# Altium footprint library ti-packages.PcbLib: 27 footprints (part 2 of 2)
Each footprint in its own frame and in the unit in brackets; x right, y up, seen from the top. Pads: shape width x height; smd on the part's side, far side on the other; paste and mask are expansions set on the pad; w line width, h text height; cw(c..) or ccw(c..) is an arc to the next point about the centre after c.
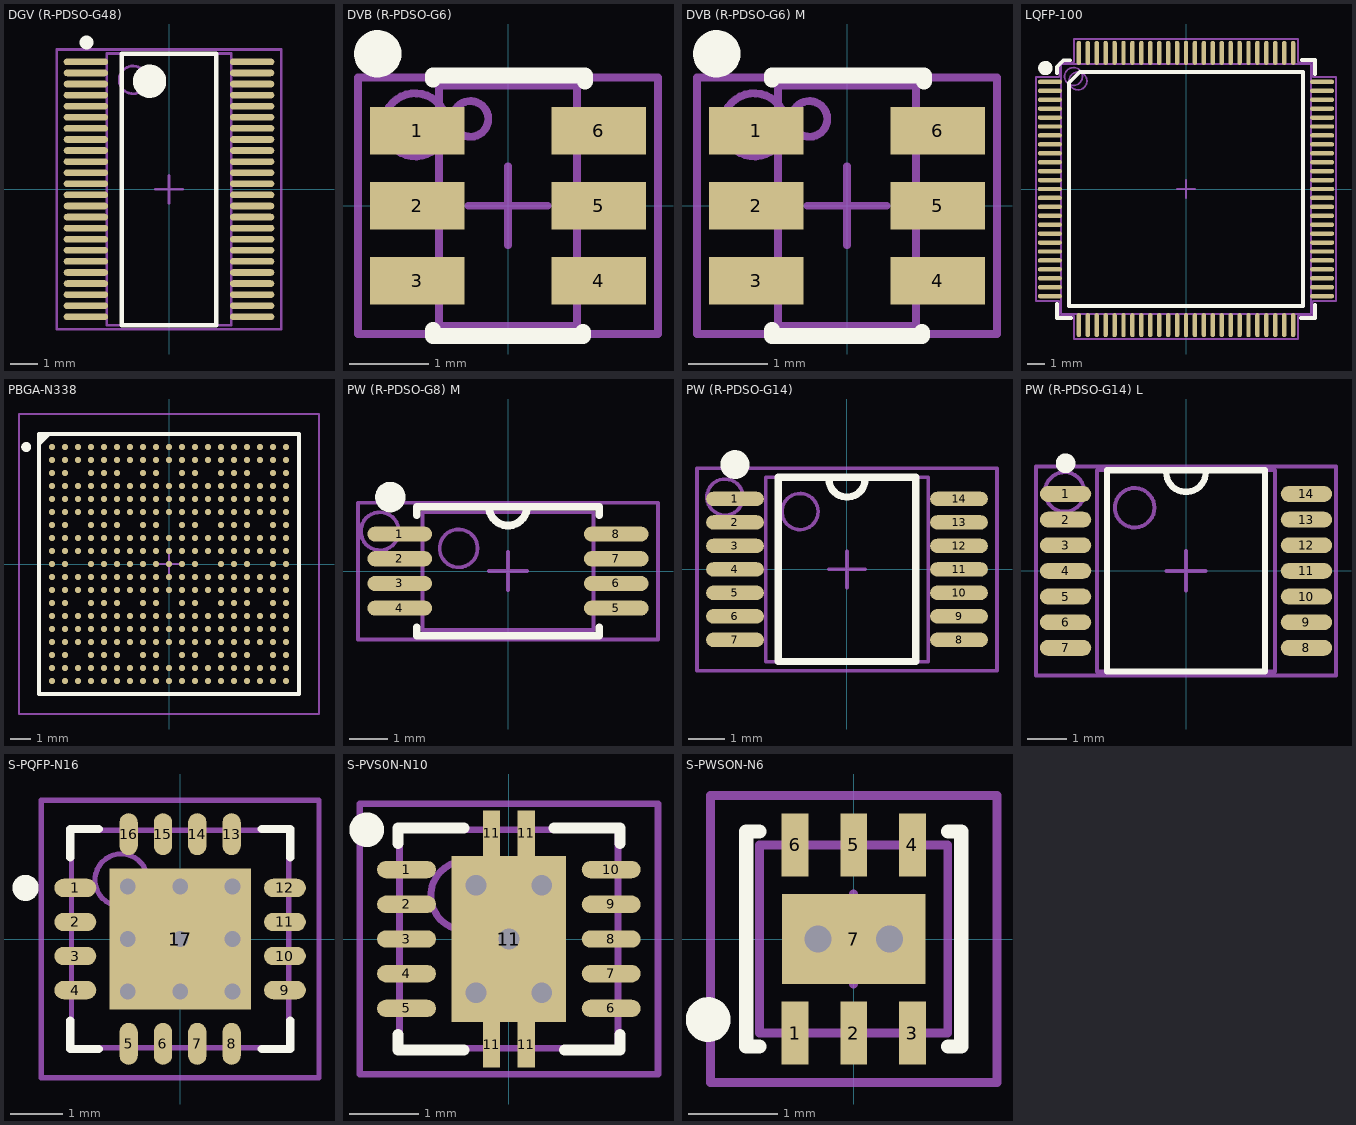
[diagram p1: the footprints below, top view; thin cyan lines are the x and y axes]

## DGV (R-PDSO-G48) [mm] "TSSOP, 48-Leads, Body 9.8x4.5mm (max), Pitch 0.40mm, IPC Medium Density"
height 1.2
pads (48):
  oval 1.6x0.24 smd: 1(-3,4.6) 2(-3,4.2) 3(-3,3.8) 4(-3,3.4) 5(-3,3) 6(-3,2.6) 7(-3,2.2) 8(-3,1.8) 9(-3,1.4) 10(-3,1) 11(-3,0.6) 12(-3,0.2) 13(-3,-0.2) 14(-3,-0.6) 15(-3,-1) 16(-3,-1.4) 17(-3,-1.8) 18(-3,-2.2) 19(-3,-2.6) 20(-3,-3) 21(-3,-3.4) 22(-3,-3.8) 23(-3,-4.2) 24(-3,-4.6) 25(3,-4.6) 26(3,-4.2) 27(3,-3.8) 28(3,-3.4) 29(3,-3) 30(3,-2.6) 31(3,-2.2) 32(3,-1.8) 33(3,-1.4) 34(3,-1) 35(3,-0.6) 36(3,-0.2) 37(3,0.2) 38(3,0.6) 39(3,1) 40(3,1.4) 41(3,1.8) 42(3,2.2) 43(3,2.6) 44(3,3) 45(3,3.4) 46(3,3.8) 47(3,4.2) 48(3,4.6)
Top Overlay:
  circle w0.6: c-0.7,3.9 r0.3
  circle w0.25: c-2.975,5.3 r0.125
  lines w0.16: -1.7,-4.9 1.7,-4.9 1.7,4.9 -1.7,4.9 -1.7,-4.9
Mechanical 13:
  circle w0.1: c-1.3,3.95 r0.5
  lines w0.1: -0.5,0 0.5,0 ; 0,-0.5 0,0.5 ; -2.25,-4.9 2.25,-4.9 2.25,4.9 -2.25,4.9 -2.25,-4.9
Mechanical 15:
  lines w0.1: -4.05,-5.05 4.05,-5.05 4.05,5.05 -4.05,5.05 -4.05,-5.05
  text ".Designator" at 0.5,2.825 h0.5
3D body: height 1.2, standoff 0, extent -3.2,-4.85 3.2,4.85

## DVB (R-PDSO-G6) [mm] "SOT23, 6-Leads, Body 3.0x3.0mm (max), Pitch 0.95mm, IPC Medium Density"
height 1.45
pads (6):
  rect 1.2x0.6 smd: 1(-1.15,0.95) 2(-1.15,0) 3(-1.15,-0.95) 4(1.15,-0.95) 5(1.15,0) 6(1.15,0.95)
Top Overlay:
  circle w0.3: c-1.65,1.925 r0.15
  lines w0.2: -0.95,-1.575 -0.95,-1.65 0.95,-1.65 0.95,-1.6 ; -0.95,1.6 -0.95,1.65 0.975,1.65 0.975,1.575
Mechanical 13:
  circle w0.1: c-0.476,1.1 r0.226
  lines w0.1: -0.5,0 0.5,0 ; 0,-0.5 0,0.5 ; -0.875,-1.525 -0.875,1.525 0.875,1.525 0.875,-1.525 -0.875,-1.525
Mechanical 15:
  circle w0.1: c-1.175,1.025 r0.4
  lines w0.1: -1.9,-1.625 -1.9,1.625 1.9,1.625 1.9,-1.625 -1.9,-1.625
  text ".Designator" at -0.25,1.125 h0.5
3D body: height 1, standoff 0, extent -1.17,-1.46 1.17,1.46

## DVB (R-PDSO-G6) M [mm] "SOT23, 6-Leads, Body 3.0x3.0mm (max), Pitch 0.95mm, IPC Medium Density"
height 1.45
pads (6):
  rect 1.2x0.6 smd: 1(-1.15,0.95) 2(-1.15,0) 3(-1.15,-0.95) 4(1.15,-0.95) 5(1.15,0) 6(1.15,0.95)
Top Overlay:
  circle w0.3: c-1.65,1.925 r0.15
  lines w0.2: -0.95,-1.575 -0.95,-1.65 0.95,-1.65 0.95,-1.6 ; -0.95,1.6 -0.95,1.65 0.975,1.65 0.975,1.575
Mechanical 13:
  circle w0.1: c-0.476,1.1 r0.226
  lines w0.1: -0.5,0 0.5,0 ; 0,-0.5 0,0.5 ; -0.875,-1.525 -0.875,1.525 0.875,1.525 0.875,-1.525 -0.875,-1.525
Mechanical 15:
  circle w0.1: c-1.175,1.025 r0.4
  lines w0.1: -1.9,-1.625 -1.9,1.625 1.9,1.625 1.9,-1.625 -1.9,-1.625
  text ".Designator" at -0.25,1.125 h0.5
3D body: height 1, standoff 0, extent -1.17,-1.46 1.17,1.46

## LQFP-100 [mm] "TSQFP, 100-Leads, Body 16.2x16.2mm (max), Pitch 0.50mm, IPC High Density"
height 1.6
pads (100):
  oval 1.35x0.25 smd: 1(-7.625,6) 2(-7.625,5.5) 3(-7.625,5) 4(-7.625,4.5) 5(-7.625,4) 6(-7.625,3.5) 7(-7.625,3) 8(-7.625,2.5) 9(-7.625,2) 10(-7.625,1.5) 11(-7.625,1) 12(-7.625,0.5) 13(-7.625,0) 14(-7.625,-0.5) 15(-7.625,-1) 16(-7.625,-1.5) 17(-7.625,-2) 18(-7.625,-2.5) 19(-7.625,-3) 20(-7.625,-3.5) 21(-7.625,-4) 22(-7.625,-4.5) 23(-7.625,-5) 24(-7.625,-5.5) 25(-7.625,-6) 51(7.625,-6) 52(7.625,-5.5) 53(7.625,-5) 54(7.625,-4.5) 55(7.625,-4) 56(7.625,-3.5) 57(7.625,-3) 58(7.625,-2.5) 59(7.625,-2) 60(7.625,-1.5) 61(7.625,-1) 62(7.625,-0.5) 63(7.625,0) 64(7.625,0.5) 65(7.625,1) 66(7.625,1.5) 67(7.625,2) 68(7.625,2.5) 69(7.625,3) 70(7.625,3.5) 71(7.625,4) 72(7.625,4.5) 73(7.625,5) 74(7.625,5.5) 75(7.625,6)
  oval 0.25x1.35 smd: 26(-6,-7.625) 27(-5.5,-7.625) 28(-5,-7.625) 29(-4.5,-7.625) 30(-4,-7.625) 31(-3.5,-7.625) 32(-3,-7.625) 33(-2.5,-7.625) 34(-2,-7.625) 35(-1.5,-7.625) 36(-1,-7.625) 37(-0.5,-7.625) 38(0,-7.625) 39(0.5,-7.625) 40(1,-7.625) 41(1.5,-7.625) 42(2,-7.625) 43(2.5,-7.625) 44(3,-7.625) 45(3.5,-7.625) 46(4,-7.625) 47(4.5,-7.625) 48(5,-7.625) 49(5.5,-7.625) 50(6,-7.625) 76(6,7.625) 77(5.5,7.625) 78(5,7.625) 79(4.5,7.625) 80(4,7.625) 81(3.5,7.625) 82(3,7.625) 83(2.5,7.625) 84(2,7.625) 85(1.5,7.625) 86(1,7.625) 87(0.5,7.625) 88(0,7.625) 89(-0.5,7.625) 90(-1,7.625) 91(-1.5,7.625) 92(-2,7.625) 93(-2.5,7.625) 94(-3,7.625) 95(-3.5,7.625) 96(-4,7.625) 97(-4.5,7.625) 98(-5,7.625) 99(-5.5,7.625) 100(-6,7.625)
Top Overlay:
  circle w0.4: c-7.875,6.775 r0.2
  lines w0.2: -7.225,-6.425 -7.225,-7.225 -6.425,-7.225 ; -7.225,6.475 -7.225,6.85 ; -6.475,7.2 -6.875,7.2 -7.225,6.85 ; 6.425,-7.225 7.225,-7.225 7.225,-6.475 ; 6.475,7.225 7.225,7.225 7.225,6.425 ; -7.225,6.85 -7.225,6.85 ; -6.55,-6.55 6.55,-6.55 6.55,6.55 -5.95,6.55 -6.55,5.95 -6.55,-6.55
Mechanical 13:
  circle w0.1: c-6.05,6.05 r0.5
  lines w0.1: -0.5,0 0.5,0 ; 0,-0.5 0,0.5 ; -7,-7 7,-7 7,7 -7,7 -7,-7
Mechanical 15:
  circle w0.1: c-6.3,6.3 r0.5
  lines w0.1: -8.4,-6.275 -7.1,-6.275 -7.1,-7.1 -6.275,-7.1 -6.275,-8.4 6.275,-8.4 6.275,-7.1 7.1,-7.1 7.1,-6.275 8.4,-6.275 8.4,6.275 7.1,6.275 7.1,7.1 6.275,7.1 6.275,8.4 -6.275,8.4 -6.275,7.1 -7.1,7.1 -7.1,6.275 -8.4,6.275 -8.4,-6.275
  text ".Designator" at -2.413,-0.254 h0.5
3D body: height 1.61, standoff -0.01, extent -8,-8 8,8

## PBGA-N338 [mm] "BGA, 338-Leads, Body 13.0x13.0mm,  Pitch 0.65mm"
height 1.3
pads (338):
  round 0.3 smd: A1(-5.85,5.85) A2(-5.2,5.85) A3(-4.55,5.85) A4(-3.9,5.85) A5(-3.25,5.85) A6(-2.6,5.85) A7(-1.95,5.85) A8(-1.3,5.85) A9(-0.65,5.85) A10(0,5.85) A11(0.65,5.85) A12(1.3,5.85) A13(1.95,5.85) A14(2.6,5.85) A15(3.25,5.85) A16(3.9,5.85) A17(4.55,5.85) A18(5.2,5.85) A19(5.85,5.85) B1(-5.85,5.2) B2(-5.2,5.2) B3(-4.55,5.2) B4(-3.9,5.2) B5(-3.25,5.2) B6(-2.6,5.2) B7(-1.95,5.2) B8(-1.3,5.2) B9(-0.65,5.2) B10(0,5.2) B11(0.65,5.2) B12(1.3,5.2) B13(1.95,5.2) B14(2.6,5.2) B15(3.25,5.2) B16(3.9,5.2) B17(4.55,5.2) B18(5.2,5.2) B19(5.85,5.2) C1(-5.85,4.55) C2(-5.2,4.55) C4(-3.9,4.55) C5(-3.25,4.55) C6(-2.6,4.55) C8(-1.3,4.55) C9(-0.65,4.55) C11(0.65,4.55) C12(1.3,4.55) C14(2.6,4.55) C15(3.25,4.55) C16(3.9,4.55) C18(5.2,4.55) C19(5.85,4.55) D1(-5.85,3.9) D2(-5.2,3.9) D3(-4.55,3.9) D4(-3.9,3.9) D5(-3.25,3.9) D6(-2.6,3.9) D7(-1.95,3.9) D8(-1.3,3.9) D9(-0.65,3.9) D10(0,3.9) D11(0.65,3.9) D12(1.3,3.9) D13(1.95,3.9) D14(2.6,3.9) D15(3.25,3.9) D16(3.9,3.9) D17(4.55,3.9) D18(5.2,3.9) D19(5.85,3.9) E1(-5.85,3.25) E2(-5.2,3.25) E3(-4.55,3.25) E4(-3.9,3.25) E5(-3.25,3.25) E6(-2.6,3.25) E7(-1.95,3.25) E8(-1.3,3.25) E9(-0.65,3.25) E10(0,3.25) E11(0.65,3.25) E12(1.3,3.25) E13(1.95,3.25) E14(2.6,3.25) E15(3.25,3.25) E16(3.9,3.25) E17(4.55,3.25) E18(5.2,3.25) E19(5.85,3.25) F1(-5.85,2.6) F2(-5.2,2.6) F3(-4.55,2.6) F4(-3.9,2.6) F5(-3.25,2.6) F6(-2.6,2.6) F7(-1.95,2.6) F8(-1.3,2.6) F9(-0.65,2.6) F10(0,2.6) F11(0.65,2.6) F12(1.3,2.6) F13(1.95,2.6) F14(2.6,2.6) F15(3.25,2.6) F16(3.9,2.6) F17(4.55,2.6) F18(5.2,2.6) F19(5.85,2.6) G1(-5.85,1.95) G2(-5.2,1.95) G4(-3.9,1.95) G5(-3.25,1.95) G6(-2.6,1.95) G8(-1.3,1.95) G9(-0.65,1.95) G11(0.65,1.95) G12(1.3,1.95) G14(2.6,1.95) G15(3.25,1.95) G16(3.9,1.95) G18(5.2,1.95) G19(5.85,1.95) H1(-5.85,1.3) H2(-5.2,1.3) H3(-4.55,1.3) H4(-3.9,1.3) H5(-3.25,1.3) H6(-2.6,1.3) H7(-1.95,1.3) H8(-1.3,1.3) H9(-0.65,1.3) H10(0,1.3) H11(0.65,1.3) H12(1.3,1.3) H13(1.95,1.3) H14(2.6,1.3) H15(3.25,1.3) H16(3.9,1.3) H17(4.55,1.3) H18(5.2,1.3) H19(5.85,1.3) J1(-5.85,0.65) J2(-5.2,0.65) J3(-4.55,0.65) J4(-3.9,0.65) J5(-3.25,0.65) J6(-2.6,0.65) J7(-1.95,0.65) J8(-1.3,0.65) J9(-0.65,0.65) J10(0,0.65) J11(0.65,0.65) J12(1.3,0.65) J13(1.95,0.65) J14(2.6,0.65) J15(3.25,0.65) J16(3.9,0.65) J17(4.55,0.65) J18(5.2,0.65) J19(5.85,0.65) K1(-5.85,0) K2(-5.2,0) K4(-3.9,0) K5(-3.25,0) K6(-2.6,0) K7(-1.95,0) K8(-1.3,0) K9(-0.65,0) K10(0,0) K11(0.65,0) K12(1.3,0) K14(2.6,0) K15(3.25,0) K16(3.9,0) K18(5.2,0) K19(5.85,0) L1(-5.85,-0.65) L2(-5.2,-0.65) L3(-4.55,-0.65) L4(-3.9,-0.65) L5(-3.25,-0.65) L6(-2.6,-0.65) L7(-1.95,-0.65) L8(-1.3,-0.65) L9(-0.65,-0.65) L10(0,-0.65) L11(0.65,-0.65) L12(1.3,-0.65) L13(1.95,-0.65) L14(2.6,-0.65) L15(3.25,-0.65) L16(3.9,-0.65) L17(4.55,-0.65) L18(5.2,-0.65) L19(5.85,-0.65) M1(-5.85,-1.3) M2(-5.2,-1.3) M3(-4.55,-1.3) M4(-3.9,-1.3) M5(-3.25,-1.3) M6(-2.6,-1.3) M7(-1.95,-1.3) M8(-1.3,-1.3) M9(-0.65,-1.3) M10(0,-1.3) M11(0.65,-1.3) M12(1.3,-1.3) M13(1.95,-1.3) M14(2.6,-1.3) M15(3.25,-1.3) M16(3.9,-1.3) M17(4.55,-1.3) M18(5.2,-1.3) M19(5.85,-1.3) N1(-5.85,-1.95) N2(-5.2,-1.95) N4(-3.9,-1.95) N5(-3.25,-1.95) N6(-2.6,-1.95) N8(-1.3,-1.95) N9(-0.65,-1.95) N11(0.65,-1.95) N12(1.3,-1.95) N14(2.6,-1.95) N15(3.25,-1.95) N16(3.9,-1.95) N18(5.2,-1.95) N19(5.85,-1.95) P1(-5.85,-2.6) P2(-5.2,-2.6) P3(-4.55,-2.6) P4(-3.9,-2.6) P5(-3.25,-2.6) P6(-2.6,-2.6) P7(-1.95,-2.6) P8(-1.3,-2.6) P9(-0.65,-2.6) P10(0,-2.6) P11(0.65,-2.6) P12(1.3,-2.6) P13(1.95,-2.6) P14(2.6,-2.6) P15(3.25,-2.6) P16(3.9,-2.6) P17(4.55,-2.6) P18(5.2,-2.6) P19(5.85,-2.6) R1(-5.85,-3.25) R2(-5.2,-3.25) R3(-4.55,-3.25) R4(-3.9,-3.25) R5(-3.25,-3.25) R6(-2.6,-3.25) R7(-1.95,-3.25) R8(-1.3,-3.25) R9(-0.65,-3.25) R10(0,-3.25) R11(0.65,-3.25) R12(1.3,-3.25) R13(1.95,-3.25) R14(2.6,-3.25) R15(3.25,-3.25) R16(3.9,-3.25) R17(4.55,-3.25) R18(5.2,-3.25) R19(5.85,-3.25) T1(-5.85,-3.9) T2(-5.2,-3.9) T3(-4.55,-3.9) T4(-3.9,-3.9) T5(-3.25,-3.9) T6(-2.6,-3.9) T7(-1.95,-3.9) T8(-1.3,-3.9) T9(-0.65,-3.9) T10(0,-3.9) T11(0.65,-3.9) T12(1.3,-3.9) T13(1.95,-3.9) T14(2.6,-3.9) T15(3.25,-3.9) T16(3.9,-3.9) T17(4.55,-3.9) T18(5.2,-3.9) T19(5.85,-3.9) U1(-5.85,-4.55) U2(-5.2,-4.55) U4(-3.9,-4.55) U5(-3.25,-4.55) U6(-2.6,-4.55) U8(-1.3,-4.55) U9(-0.65,-4.55) U11(0.65,-4.55) U12(1.3,-4.55) U14(2.6,-4.55) U15(3.25,-4.55) U16(3.9,-4.55) U18(5.2,-4.55) U19(5.85,-4.55) V1(-5.85,-5.2) V2(-5.2,-5.2) V3(-4.55,-5.2) V4(-3.9,-5.2) V5(-3.25,-5.2) V6(-2.6,-5.2) V7(-1.95,-5.2) V8(-1.3,-5.2) V9(-0.65,-5.2) V10(0,-5.2) V11(0.65,-5.2) V12(1.3,-5.2) V13(1.95,-5.2) V14(2.6,-5.2) V15(3.25,-5.2) V16(3.9,-5.2) V17(4.55,-5.2) V18(5.2,-5.2) V19(5.85,-5.2) W1(-5.85,-5.85) W2(-5.2,-5.85) W3(-4.55,-5.85) W4(-3.9,-5.85) W5(-3.25,-5.85) W6(-2.6,-5.85) W7(-1.95,-5.85) W8(-1.3,-5.85) W9(-0.65,-5.85) W10(0,-5.85) W11(0.65,-5.85) W12(1.3,-5.85) W13(1.95,-5.85) W14(2.6,-5.85) W15(3.25,-5.85) W16(3.9,-5.85) W17(4.55,-5.85) W18(5.2,-5.85) W19(5.85,-5.85)
Top Overlay:
  circle w0.25: c-7.14,5.85 r0.125
  region: -5.999,6.5 -6.5,5.999 -6.5,6.5
  lines w0.18: -6.5,5.999 -5.999,6.5 ; -6.5,-6.5 -6.5,6.5 6.5,6.5 6.5,-6.5 -6.5,-6.5
Mechanical 13:
  lines w0.1: -0.5,0 0.5,0 ; 0,-0.5 0,0.5 ; -6.5,-6.5 -6.5,6.5 6.5,6.5 6.5,-6.5 -6.5,-6.5
Mechanical 15:
  lines w0.1: -7.5,-7.5 -7.5,7.5 7.5,7.5 7.5,-7.5 -7.5,-7.5
  text ".Designator" at -2.5,-0.2 h0.5
3D body: height 1.3, standoff 0.23, extent -6.5,-6.5 6.5,6.5

## PW (R-PDSO-G8) M [mm] "TSOP, 8-Leads, Body 3.1x4.5mm (max), Pitch 0.65mm, IPC Medium Density"
height 1.2
pads (8):
  oval 1.7x0.4 smd: 1(-2.85,0.975) 2(-2.85,0.325) 3(-2.85,-0.325) 4(-2.85,-0.975) 5(2.85,-0.975) 6(2.85,-0.325) 7(2.85,0.325) 8(2.85,0.975)
Top Overlay:
  circle w0.4: c-3.1,1.95 r0.2
  lines w0.2: -2.4,-1.475 -2.4,-1.7 2.4,-1.7 2.4,-1.475 ; -2.4,1.475 -2.4,1.7 2.4,1.7 2.4,1.475 ; -0.5,1.7 ccw(c0,1.7) 0.5,1.7
Mechanical 13:
  circle w0.1: c-1.3,0.6 r0.5
  lines w0.1: -0.5,0 0.5,0 ; 0,-0.5 0,0.5 ; -2.25,-1.55 -2.25,1.55 2.25,1.55 2.25,-1.55 -2.25,-1.55
Mechanical 15:
  circle w0.1: c-3.375,1.05 r0.5
  lines w0.1: -3.95,-1.8 -3.95,1.8 3.95,1.8 3.95,-1.8 -3.95,-1.8
  text ".Designator" at -1.613,-0.854 h0.5
3D body: height 1.2, standoff 0, extent -3.228,-1.5 3.228,1.5

## PW (R-PDSO-G14) [mm] "TSOP, 14-Leads, Body 5.1x4.5mm (max), Pitch 0.65mm, IPC Medium Density"
height 1.2
pads (14):
  oval 1.6x0.4 smd: 1(-3.1,1.95) 2(-3.1,1.3) 3(-3.1,0.65) 4(-3.1,0) 5(-3.1,-0.65) 6(-3.1,-1.3) 7(-3.1,-1.95) 8(3.1,-1.95) 9(3.1,-1.3) 10(3.1,-0.65) 11(3.1,0) 12(3.1,0.65) 13(3.1,1.3) 14(3.1,1.95)
Top Overlay:
  circle w0.4: c-3.1,2.9 r0.2
  lines w0.2: -0.5,2.5 ccw(c0,2.5) 0.5,2.5 ; -1.9,-2.55 -1.9,2.55 1.9,2.55 1.9,-2.55 -1.9,-2.55
Mechanical 13:
  circle w0.1: c-1.3,1.6 r0.5
  lines w0.1: -0.5,0 0.5,0 ; 0,-0.5 0,0.5 ; -2.25,-2.55 -2.25,2.55 2.25,2.55 2.25,-2.55 -2.25,-2.55
Mechanical 15:
  circle w0.1: c-3.375,2 r0.5
  lines w0.1: -4.15,-2.8 -4.15,2.8 4.15,2.8 4.15,-2.8 -4.15,-2.8
  text ".Designator" at -1.613,-0.854 h0.5
3D body: height 0.98, standoff -0.02, extent -3.21,-2.5 3.21,2.5

## PW (R-PDSO-G14) L [mm] "TSOP, 14-Leads, Body 5.1x4.5mm (max), Pitch 0.65mm, IPC High Density"
height 1.2
pads (14):
  oval 1.3x0.4 smd: 1(-3.05,1.95) 2(-3.05,1.3) 3(-3.05,0.65) 4(-3.05,0) 5(-3.05,-0.65) 6(-3.05,-1.3) 7(-3.05,-1.95) 8(3.05,-1.95) 9(3.05,-1.3) 10(3.05,-0.65) 11(3.05,0) 12(3.05,0.65) 13(3.05,1.3) 14(3.05,1.95)
Top Overlay:
  circle w0.25: c-3.05,2.725 r0.125
  lines w0.16: -0.5,2.5 ccw(c0,2.5) 0.5,2.5 ; -2,-2.55 -2,2.55 2,2.55 2,-2.55 -2,-2.55
Mechanical 13:
  circle w0.1: c-1.3,1.6 r0.5
  lines w0.1: -0.5,0 0.5,0 ; 0,-0.5 0,0.5 ; -2.25,-2.55 -2.25,2.55 2.25,2.55 2.25,-2.55 -2.25,-2.55
Mechanical 15:
  circle w0.1: c-3.075,2 r0.5
  lines w0.1: -3.8,-2.65 -3.8,2.65 3.8,2.65 3.8,-2.65 -3.8,-2.65
  text ".Designator" at -1.613,-0.854 h0.5
3D body: height 0.98, standoff -0.02, extent -3.21,-2.5 3.21,2.5

## S-PQFP-N16 [mm] "QFN, 16-Leads, Body 4.2x4.2mm (max), Pitch 0.65mm, Pitch1 0.65mm, IPC Medium Density"
height 0.8
pads (17):
  oval 0.8x0.35 smd: 1(-2,0.975) 2(-2,0.325) 3(-2,-0.325) 4(-2,-0.975) 9(2,-0.975) 10(2,-0.325) 11(2,0.325) 12(2,0.975)
  oval 0.35x0.8 smd: 5(-0.982,-2) 6(-0.327,-2) 7(0.327,-2) 8(0.982,-2) 13(0.982,2) 14(0.327,2) 15(-0.327,2) 16(-0.982,2)
  rect 2.7x2.7 smd: 17(0,0)
via 0,0 diameter 0.5 hole 0.3
via 0,1 diameter 0.5 hole 0.3
via 0,-1 diameter 0.5 hole 0.3
via 1,1 diameter 0.5 hole 0.3
via -1,1 diameter 0.5 hole 0.3
via 1,-1 diameter 0.5 hole 0.3
via 1,0 diameter 0.5 hole 0.3
via -1,0 diameter 0.5 hole 0.3
via -1,-1 diameter 0.5 hole 0.3
Top Overlay:
  circle w0.25: c-2.95,0.975 r0.125
  lines w0.16: -2.1,-1.555 -2.1,-2.1 -1.555,-2.1 ; -2.1,1.555 -2.1,2.1 -1.555,2.1 ; 1.555,-2.1 2.1,-2.1 2.1,-1.555 ; 1.555,2.1 2.1,2.1 2.1,1.555
Mechanical 13:
  circle w0.1: c-1.125,1.125 r0.5
  lines w0.1: -0.5,0 0.5,0 ; 0,-0.5 0,0.5 ; -2.075,-2.075 -2.075,2.075 2.075,2.075 2.075,-2.075 -2.075,-2.075
Mechanical 15:
  lines w0.1: -2.65,-2.65 -2.65,2.65 2.65,2.65 2.65,-2.65 -2.65,-2.65
  text ".Designator" at -2.4,-0.1 h0.5
3D body: height 0.88, standoff -0.02, extent -2,-2 2,2

## S-PVS0N-N10 [mm] "QFN, 10-Leads, Body 3.2x3.2mm (max), Pitch 0.50mm, IPC Medium Density"
height 1
pads (15):
  oval 0.85x0.25 smd: 1(-1.475,1) 2(-1.475,0.5) 3(-1.475,0) 4(-1.475,-0.5) 5(-1.475,-1) 6(1.475,-1) 7(1.475,-0.5) 8(1.475,0) 9(1.475,0.5) 10(1.475,1)
  rect 0.25x0.65 smd: 11(-0.25,-1.525) 11(-0.25,1.525) 11(0.25,-1.525) 11(0.25,1.525)
  rect 1.65x2.4 smd: 11(0,0)
via -0.475,0.775 diameter 0.6 hole 0.3
via 0.475,0.775 diameter 0.6 hole 0.3
via 0.475,-0.775 diameter 0.6 hole 0.3
via -0.475,-0.775 diameter 0.6 hole 0.3
via 0,0 diameter 0.6 hole 0.3
Top Overlay:
  circle w0.25: c-2.05,1.575 r0.125
  lines w0.16: -1.6,-1.375 -1.6,-1.6 -0.65,-1.6 ; -1.6,1.375 -1.6,1.6 -0.65,1.6 ; 0.65,1.6 1.6,1.6 1.6,1.375 ; 0.8,-1.6 1.6,-1.6 1.6,-1.375
Mechanical 13:
  circle w0.1: c-0.625,0.625 r0.5
  lines w0.1: -0.5,0 0.5,0 ; 0,-0.5 0,0.5 ; -1.575,-1.575 1.575,-1.575 1.575,1.575 -1.575,1.575 -1.575,-1.575
Mechanical 15:
  lines w0.1: -2.15,-1.95 2.15,-1.95 2.15,1.95 -2.15,1.95 -2.15,-1.95
  text ".Designator" at 0.2,-1.7 h0.5
3D body: height 0.89, standoff -0.01, extent -1.5,-1.5 1.5,1.5

## S-PWSON-N6 [mm] "QFN, 6-Leads, Body 2.1x2.1mm (max), Pitch 0.65mm, Pitch1 0.65mm, IPC Medium Density"
height 0.8
pads (7):
  rect 0.3x0.7 smd: 1(-0.655,-1.05) 2(0,-1.05) 3(0.655,-1.05) 4(0.655,1.05) 5(0,1.05) 6(-0.655,1.05)
  rect 1.6x1 smd: 7(0,0)
via -0.4,0 diameter 0.6 hole 0.3
via 0.4,0 diameter 0.6 hole 0.3
Top Overlay:
  circle w0.25: c-1.625,-0.9 r0.125
  lines w0.16: -1.055,-1.2 -1.2,-1.2 -1.2,1.2 -1.055,1.2 ; 1.055,-1.2 1.2,-1.2 1.2,1.2 1.055,1.2
Mechanical 13:
  lines w0.1: -0.5,0 0.5,0 ; 0,-0.5 0,0.5 ; -1.05,-1.05 -1.05,1.05 1.05,1.05 1.05,-1.05 -1.05,-1.05
Mechanical 15:
  lines w0.1: -1.6,-1.6 -1.6,1.6 1.6,1.6 1.6,-1.6 -1.6,-1.6
  text ".Designator" at -1.4,-0.2 h0.5
3D body: height 0.05, standoff 0, extent -0.8,-0.5 0.8,0.5
3D body: height 0.2, standoff 0, extent 0.505,0.81 0.805,1.06
3D body: height 0.2, standoff 0, extent -0.15,0.81 0.15,1.06
3D body: height 0.2, standoff 0, extent -0.805,0.81 -0.505,1.06
3D body: height 0.2, standoff 0, extent 0.505,-1.06 0.805,-0.81
3D body: height 0.2, standoff 0, extent -0.15,-1.06 0.15,-0.81
3D body: height 0.2, standoff 0, extent -0.805,-1.06 -0.505,-0.81
3D body: height 0.8, standoff 0.05, extent -1.05,-1.05 1.05,1.05